# Altium footprint library HRS2H-S-DC24V.PcbLib: 1 footprints
Each footprint in its own frame and in the unit in brackets; x right, y up, seen from the top. Pads: shape width x height; smd on the part's side, far side on the other; paste and mask are expansions set on the pad; w line width, h text height; cw(c..) or ccw(c..) is an arc to the next point about the centre after c.
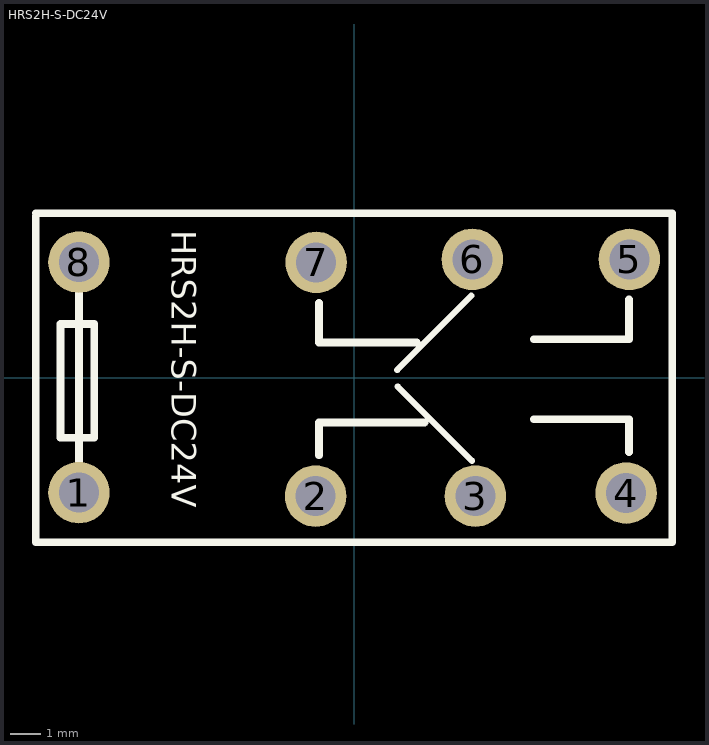
[diagram p0: the footprint, top view; thin cyan lines are the x and y axes]

## HRS2H-S-DC24V [mm]
pads (8):
  round 2 hole 1.3 paste+0 mask+0.051: 1(-8.952,-3.74) 2(-1.256,-3.849) 3(3.943,-3.849) 4(8.846,-3.75) 5(8.952,3.847) 6(3.844,3.849) 7(-1.236,3.75) 8(-8.952,3.76)
Top Overlay:
  lines w0.203: 1.397,0.254 3.81,2.667 ; 1.415,-0.288 3.828,-2.701
  lines w0.254: -10.357,5.25 -10.357,-5.35 10.343,-5.35 10.343,5.35 -10.357,5.35 ; -8.957,-2.85 -8.957,2.85 ; -1.143,-2.52 -1.143,-1.457 2.286,-1.457 ; -1.143,2.433 -1.143,1.143 2.032,1.143 ; 5.842,-1.35 8.943,-1.35 8.943,-2.413 ; 5.842,1.25 8.943,1.25 8.943,2.54 ; -9.557,-1.95 -8.457,-1.95 -8.457,1.75 -9.557,1.75 -9.557,-1.95
  text "HRS2H-S-DC24V" at -5.936,4.793 h0.8